# Altium footprint library Componentes_custom.PcbLib: 10 footprints
Each footprint in its own frame and in the unit in brackets; x right, y up, seen from the top. Pads: shape width x height; smd on the part's side, far side on the other; paste and mask are expansions set on the pad; w line width, h text height; cw(c..) or ccw(c..) is an arc to the next point about the centre after c.
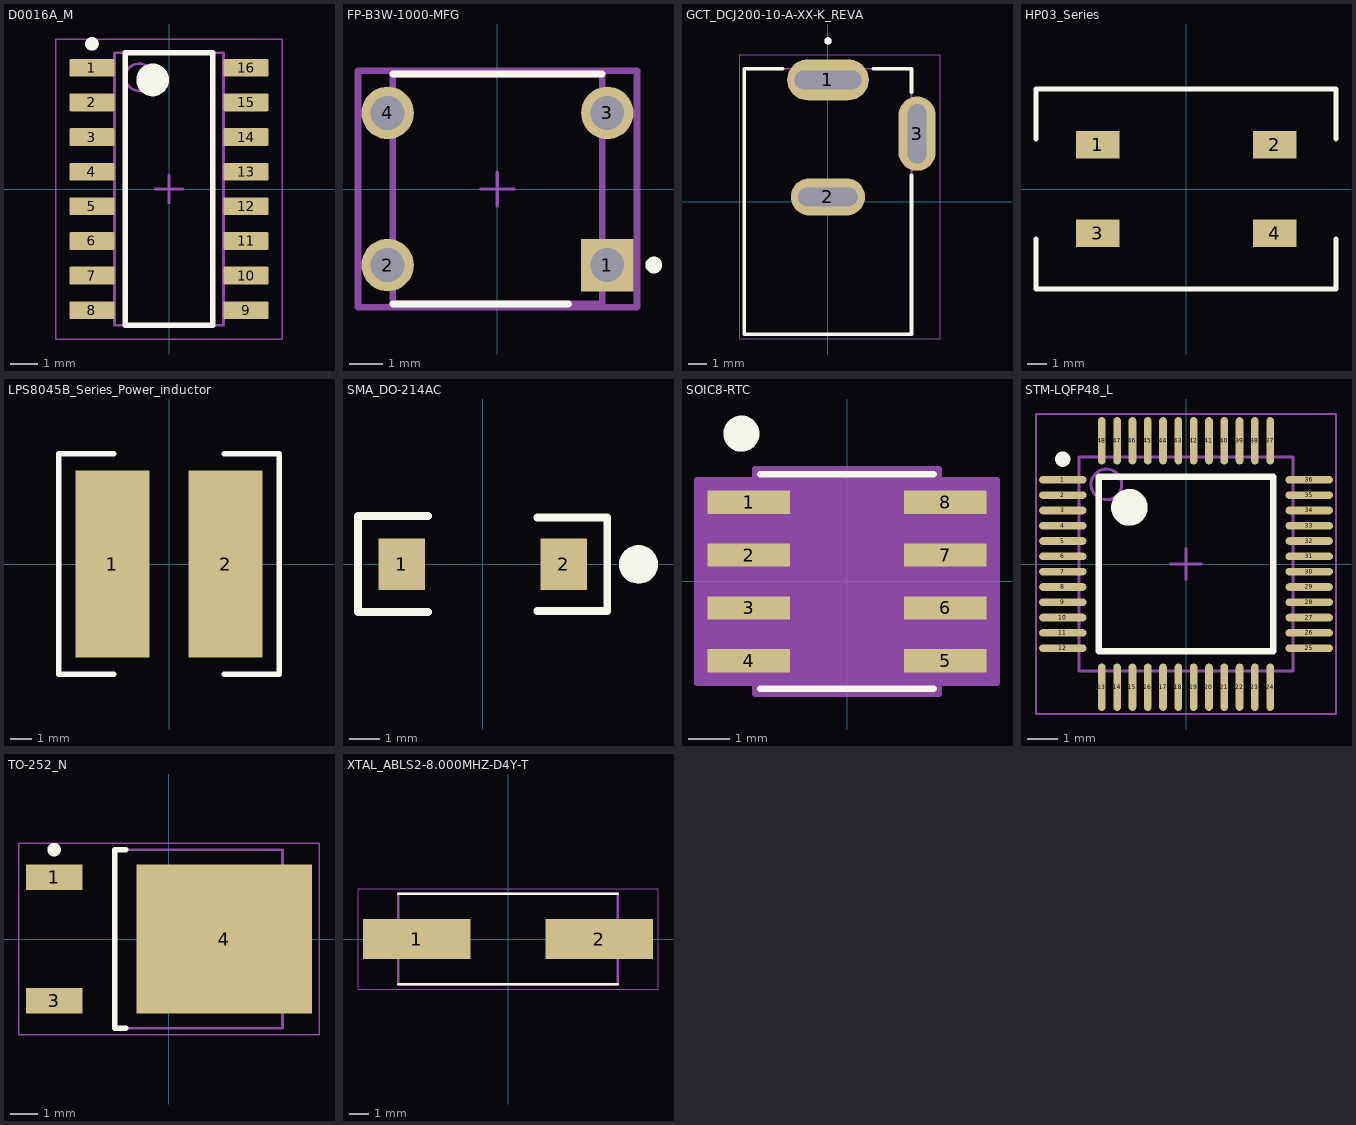
[diagram p0: the footprints below, top view; thin cyan lines are the x and y axes]

## D0016A_M [mm] "SOIC, 16-Leads, Body 10x4mm, Pitch 1.27mm, IPC Low Density"
height 1.75
pads (16):
  rrect15% 1.65x0.65 smd: 1(-2.825,4.445) 2(-2.825,3.175) 3(-2.825,1.905) 4(-2.825,0.635) 5(-2.825,-0.635) 6(-2.825,-1.905) 7(-2.825,-3.175) 8(-2.825,-4.445) 9(2.825,-4.445) 10(2.825,-3.175) 11(2.825,-1.905) 12(2.825,-0.635) 13(2.825,0.635) 14(2.825,1.905) 15(2.825,3.175) 16(2.825,4.445)
Top Overlay:
  circle w0.25: c-2.825,5.32 r0.125
  circle w0.6: c-0.6,4 r0.3
  lines w0.2: -1.6,-5 -1.6,5 1.6,5 1.6,-5 -1.6,-5
Mechanical 1:
  text ".Designator" at -1.575,-0.35 h0.8
Mechanical 13:
  circle w0.1: c-1.1,4.1 r0.5
  lines w0.1: -2,-5 -2,5 2,5 2,-5 -2,-5
Mechanical 15:
  lines w0.05: -4.15,-5.5 -4.15,5.5 4.15,5.5 4.15,-5.5 -4.15,-5.5
  lines w0.1: -0.5,0 0.5,0 ; 0,-0.5 0,0.5
3D body "SOIC-16akaD0016AakaM16A.stp": height 1.59, standoff -0.01, extent -2.997,-4.953 2.997,4.953

## FP-B3W-1000-MFG [mm] "Tactile switch 6x6mm THT"
pads (4):
  rect 1.55x1.55 hole 1 paste-2539.97 mask+0: 1(3.25,-2.25)
  round 1.55 hole 1 paste-2539.97 mask+0: 2(-3.25,-2.25) 3(3.25,2.25) 4(-3.25,2.25)
Top Overlay:
  circle w0.25: c4.625,-2.25 r0.125
  lines w0.2: -3.1,-3.4 2.1,-3.4 ; -3.1,3.4 3.1,3.4
Top 3D Body:
  lines w0.2: -3.1,-3.4 3.1,-3.4 3.1,3.4 -3.1,3.4 -3.1,-3.4
Top Courtyard:
  lines w0.2: -4.125,-3.5 4.125,-3.5 4.125,3.5 -4.125,3.5 -4.125,-3.5
Top Assembly:
  lines w0.2: -4.125,-3.5 4.125,-3.5 4.125,3.5 -4.125,3.5 -4.125,-3.5
  text ".Designator" at 0,0.188 h1
Top Component Center:
  lines w0.1: -0.5,0 0.5,0 ; 0,-0.5 0,0.5
3D body "Switch_Omron_B3W-1000_eec.STEP": height 0.25, standoff 0, extent -4.125,-3.5 4.125,3.5

## GCT_DCJ200-10-A-XX-K_REVA [mm]
height 11
pads (3):
  oval 4.4x2.2 hole 1 slot 3.6 at 0 deg: 1(0,6.55)
  oval 4x2 hole 1 slot 3.2 at 0 deg: 2(0,0.25)
  oval 2x4 hole 1 slot 3.2 at 90 deg: 3(4.8,3.65)
Top Overlay:
  circle w0.2: c0,8.65 r0.1
  lines w0.2: -2.45,7.15 -4.5,7.15 -4.5,-7.15 4.5,-7.15 4.5,1.4 ; 2.45,7.15 4.5,7.15 4.5,5.9
Mechanical 13:
  circle w0.2: c0,8.65 r0.1
  lines w0.1: -4.5,-7.15 -4.5,7.15 4.5,7.15 4.5,-7.15 -4.5,-7.15
Mechanical 15:
  lines w0.05: -4.75,-7.4 6.05,-7.4 6.05,7.9 -4.75,7.9 -4.75,-7.4
3D body "step_temp.STEP": height 11, standoff -3.5, extent -4.5,-7.15 5.05,7.15

## HP03_Series [mil]
pads (4):
  rect 87x55 smd: 1(-177,88.55) 2(177,88.55) 3(-177,-88.55) 4(177,-88.55)
Top Overlay:
  lines w10: -300,-100 -300,-200 300,-200 300,-100 ; -300,100 -300,200 300,200 300,100
3D body "HP0315AFKP2.stp": height 173, standoff 0, extent -177,-122 177,122

## LPS8045B_Series_Power_inductor [mil]
pads (2):
  rect 134x339 smd: 1(-102.5,0) 2(102.5,0)
Top Overlay:
  lines w10: -100,-200 -200,-200 -200,200 -100,200 ; 100,-200 200,-200 200,200 100,200
3D body "Coilcraft-LPS8045B.STEP": height 185.04, standoff 0, extent -159.06,-157.48 159.06,157.48

## SMA_DO-214AC [mil] "This is a packaging that's usual for SMD diodes."
pads (3):
  rect 60x66 smd: 1(-104,0) 2(104,0)
  round 50 on Top Overlay: ""(200,0)
Top Overlay:
  lines w10: -70,-61 -160,-61 -160,62 -70,62 ; 70,-60 160,-60 160,-30 160,60 70,60
3D body "User Library-DO-214AC SMA.STEP": height 94.77, standoff 0.18, extent -102.36,-51.18 102.36,51.18

## SOIC8-RTC [mil] "Usado en RTC"
pads (8):
  rect 78x22 smd paste+0 mask+0: 1(-93,75) 2(-93,25) 3(-93,-25) 4(-93,-75) 5(93,-75) 6(93,-25) 7(93,25) 8(93,75)
Top Overlay:
  circle w20: c-100,140 r7.07
  lines w6: -82,-101.5 82,-101.5 ; -82,101.5 82,101.5
Mechanical 13:
  lines w0: -12,96.5 ccw(c0,96.5) 12,96.5
  lines w1: -118,-85 -77,-85 -77,-65 -118,-65 -118,-85 ; -118,-35 -77,-35 -77,-15 -118,-15 -118,-35 ; -118,15 -77,15 -77,35 -118,35 -118,15 ; -118,65 -77,65 -77,85 -118,85 -118,65 ; -77,-96.5 -77,96.5 77,96.5 77,-96.5 -77,-96.5 ; 77,-85 118,-85 118,-65 77,-65 77,-85 ; 77,-35 118,-35 118,-15 77,-15 77,-35 ; 77,15 118,15 118,35 77,35 77,15 ; 77,65 118,65 118,85 77,85 77,65
  text "*" at -74.5,43.5 h50
Mechanical 15:
  region: -87,-96 -142,-96 -142,96 -87,96 -87,106.5 87,106.5 87,96 142,96 142,-96 87,-96 87,-106.5 -87,-106.5
  lines w6: -142,-96 -87,-96 -87,-106.5 87,-106.5 87,-96 142,-96 142,96 87,96 87,106.5 -87,106.5 -87,96 -142,96 -142,-96
3D body "SOIC8-N_MC_MCH.step": height 69.09, standoff 0, extent -117.99,-96.5 117.99,96.5

## STM-LQFP48_L [mm] "QFP, 48-Leads, Body 7x7mm, Pitch 0.5mm, IPC High Density"
height 1.6
pads (48):
  oval 1.55x0.25 smd: 1(-4.025,2.75) 2(-4.025,2.25) 3(-4.025,1.75) 4(-4.025,1.25) 5(-4.025,0.75) 6(-4.025,0.25) 7(-4.025,-0.25) 8(-4.025,-0.75) 9(-4.025,-1.25) 10(-4.025,-1.75) 11(-4.025,-2.25) 12(-4.025,-2.75) 25(4.025,-2.75) 26(4.025,-2.25) 27(4.025,-1.75) 28(4.025,-1.25) 29(4.025,-0.75) 30(4.025,-0.25) 31(4.025,0.25) 32(4.025,0.75) 33(4.025,1.25) 34(4.025,1.75) 35(4.025,2.25) 36(4.025,2.75)
  oval 0.25x1.55 smd: 13(-2.75,-4.025) 14(-2.25,-4.025) 15(-1.75,-4.025) 16(-1.25,-4.025) 17(-0.75,-4.025) 18(-0.25,-4.025) 19(0.25,-4.025) 20(0.75,-4.025) 21(1.25,-4.025) 22(1.75,-4.025) 23(2.25,-4.025) 24(2.75,-4.025) 37(2.75,4.025) 38(2.25,4.025) 39(1.75,4.025) 40(1.25,4.025) 41(0.75,4.025) 42(0.25,4.025) 43(-0.25,4.025) 44(-0.75,4.025) 45(-1.25,4.025) 46(-1.75,4.025) 47(-2.25,4.025) 48(-2.75,4.025)
Top Overlay:
  circle w0.25: c-4.025,3.425 r0.125
  circle w0.6: c-1.85,1.85 r0.3
  lines w0.2: -2.85,-2.85 -2.85,2.85 2.85,2.85 2.85,-2.85 -2.85,-2.85
Mechanical 13:
  circle w0.1: c-2.6,2.6 r0.5
  lines w0.1: -3.5,-3.5 -3.5,3.5 3.5,3.5 3.5,-3.5 -3.5,-3.5
Mechanical 15:
  lines w0.05: -4.9,-4.9 -4.9,4.9 4.9,4.9 4.9,-4.9 -4.9,-4.9
  lines w0.1: -0.5,0 0.5,0 ; 0,-0.5 0,0.5
3D body "User Library-STM32F103C8T6.STEP": height 1.53, standoff -0.02, extent -4.5,-4.5 4.5,4.5

## TO-252_N [mm] "D-PAK, 4-Leads, Body 6.1x6.5mm, Pitch 2.28mm, Lead Span 9.7mm, IPC Medium Density"
height 2.4
pads (3):
  rect 2.1x0.95 smd: 1(-4.25,2.28) 3(-4.25,-2.28)
  rect 6.5x5.5 smd: 4(2.05,0)
Top Overlay:
  circle w0.25: c-4.25,3.305 r0.125
  lines w0.2: -1.6,-3.3 -2,-3.3 -2,3.3 -1.6,3.3
Mechanical 13:
  lines w0.1: -2,-3.3 -2,3.3 4.2,3.3 4.2,-3.3 -2,-3.3
Mechanical 15:
  lines w0.05: -5.55,-3.55 -5.55,3.55 5.55,3.55 5.55,-3.55 -5.55,-3.55
  lines w0.1: -0.5,0 0.5,0 ; 0,-0.5 0,0.5
3D body "User Library-DPAK_TO-252AA.STEP": height 2.4, standoff 0, extent -4.766,-3.367 5.334,3.367

## XTAL_ABLS2-8.000MHZ-D4Y-T [mm]
height 3.3
pads (2):
  rect 5.6x2.1 smd: 1(-4.75,0) 2(4.75,0)
Top Overlay:
  lines w0.127: -5.7,-2.35 5.7,-2.35 ; -5.7,2.35 5.7,2.35
Mechanical 13:
  lines w0.127: -5.7,-2.35 -5.7,2.35 5.7,2.35 5.7,-2.35 -5.7,-2.35
Mechanical 15:
  lines w0.05: -7.8,-2.6 -7.8,2.6 7.8,2.6 7.8,-2.6 -7.8,-2.6
3D body "step_temp.STEP": height 3.16, standoff -0.1, extent -6.35,-2.349 6.35,2.349